# Altium footprint library Si4936CDY.PcbLib: 1 footprints
Each footprint in its own frame and in the unit in brackets; x right, y up, seen from the top. Pads: shape width x height; smd on the part's side, far side on the other; paste and mask are expansions set on the pad; w line width, h text height; cw(c..) or ccw(c..) is an arc to the next point about the centre after c.
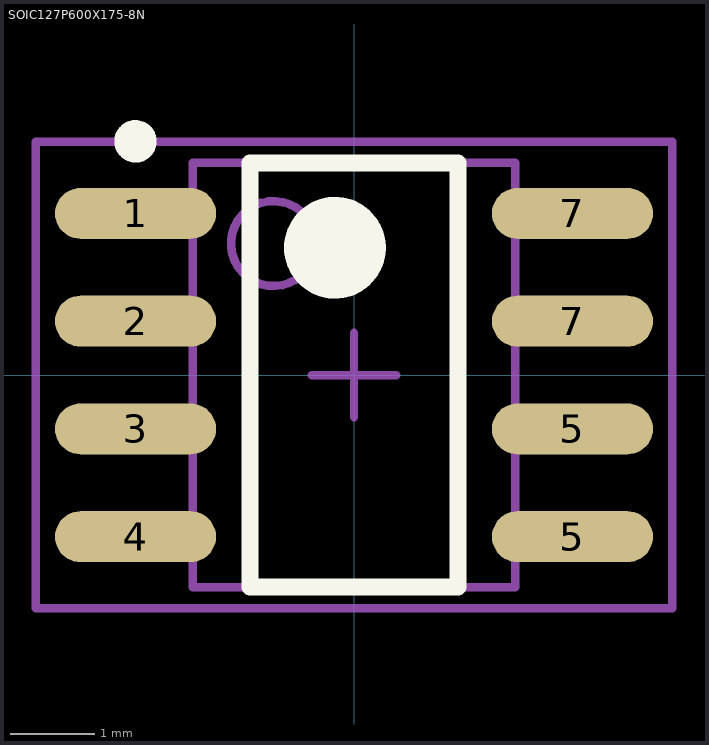
[diagram p0: the footprint, top view; thin cyan lines are the x and y axes]

## SOIC127P600X175-8N [mm] "SOIC, 8-Leads, Body 5.0x3.8mm (max), Pitch 1.27mm, IPC Medium Density"
height 1.75
pads (8):
  oval 1.9x0.6 smd: 1(-2.575,1.905) 2(-2.575,0.635) 3(-2.575,-0.635) 4(-2.575,-1.905) 5(2.575,-1.905) 5(2.575,-0.635) 7(2.575,0.635) 7(2.575,1.905)
Top Overlay:
  circle w0.6: c-0.225,1.5 r0.3
  circle w0.25: c-2.575,2.755 r0.125
  lines w0.2: -1.225,-2.5 1.225,-2.5 1.225,2.5 -1.225,2.5 -1.225,-2.5
Mechanical 13:
  circle w0.1: c-0.95,1.55 r0.5
  lines w0.1: -1.9,-2.5 1.9,-2.5 1.9,2.5 -1.9,2.5 -1.9,-2.5
Mechanical 15:
  lines w0.1: -0.5,0 0.5,0 ; 0,-0.5 0,0.5 ; -3.75,-2.75 3.75,-2.75 3.75,2.75 -3.75,2.75 -3.75,-2.75
3D body: height 1.75, standoff 0.1, extent -1.9,-2.5 1.9,2.5